# Altium footprint library QFN_Sq_65P_Side_L.PcbLib: 53 footprints (part 1 of 4)
Each footprint in its own frame and in the unit in brackets; x right, y up, seen from the top. Pads: shape width x height; smd on the part's side, far side on the other; paste and mask are expansions set on the pad; w line width, h text height; cw(c..) or ccw(c..) is an arc to the next point about the centre after c.
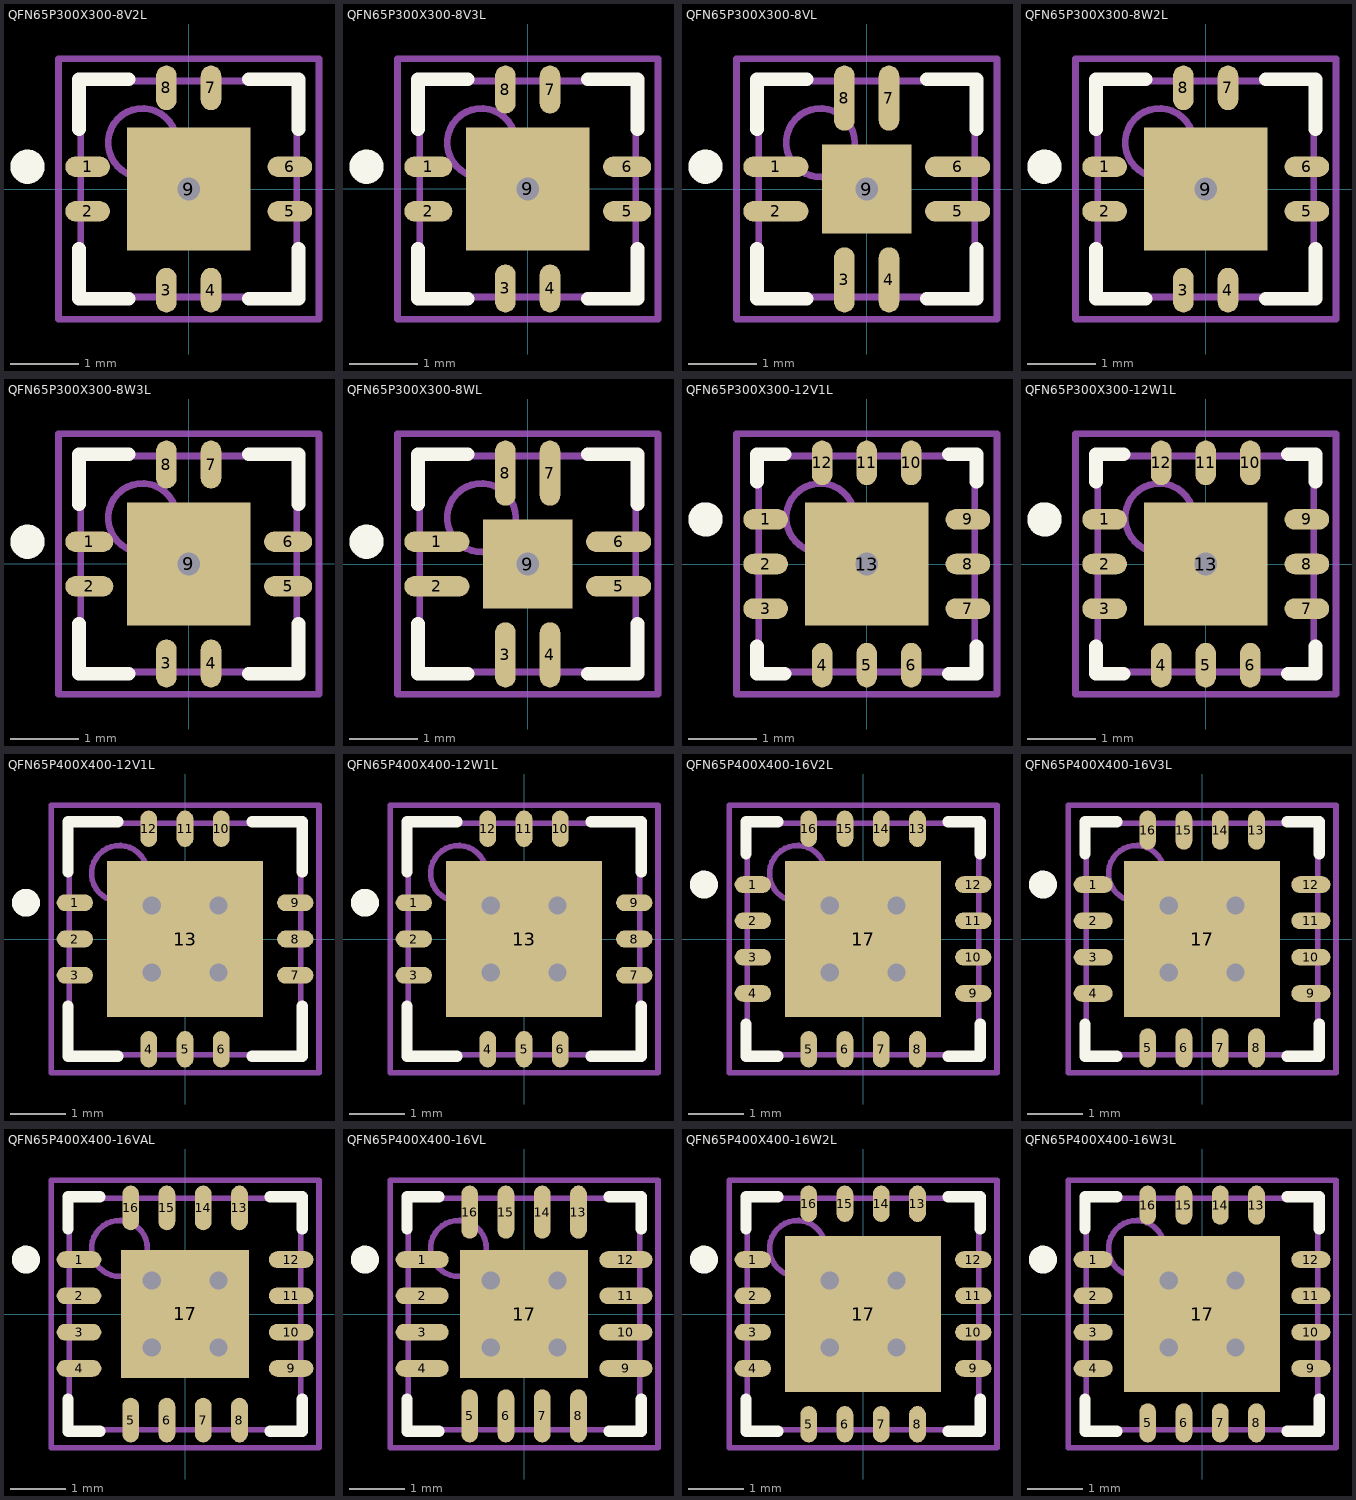
[diagram p0: the footprints below, top view; thin cyan lines are the x and y axes]

## QFN65P300X300-8V2L [mm] "QFN, 8-Leads, Body 3x3 mm, Pitch 0.65mm, IPC High Density"
height 1
pads (9):
  oval 0.65x0.3 smd: 1(-1.475,0.325) 2(-1.475,-0.325) 5(1.475,-0.325) 6(1.475,0.325)
  oval 0.3x0.65 smd: 3(-0.325,-1.475) 4(0.325,-1.475) 7(0.325,1.475) 8(-0.325,1.475)
  rect 1.8x1.8 smd: 9(0,0)
via 0,0 diameter 0.66 hole 0.33
Top Overlay:
  circle w0.25: c-2.35,0.325 r0.125
  lines w0.2: -1.6,-0.875 -1.6,-1.6 -0.875,-1.6 ; -1.6,0.875 -1.6,1.6 -0.875,1.6 ; 0.875,-1.6 1.6,-1.6 1.6,-0.875 ; 0.875,1.6 1.6,1.6 1.6,0.875
Mechanical 13:
  circle w0.1: c-0.675,0.675 r0.5
  lines w0.1: -1.575,-1.575 -1.575,1.575 1.575,1.575 1.575,-1.575 -1.575,-1.575
Mechanical 15:
  lines w0.1: -0.5,0 0.5,0 ; 0,-0.5 0,0.5 ; -1.9,-1.9 -1.9,1.9 1.9,1.9 1.9,-1.9 -1.9,-1.9
3D body: height 1, standoff 0, extent -1.575,-1.575 1.575,1.575

## QFN65P300X300-8V3L [mm] "QFN, 8-Leads, Body 3x3 mm, Pitch 0.65mm, IPC High Density"
height 1
pads (9):
  oval 0.7x0.3 smd: 1(-1.45,0.325) 2(-1.45,-0.325) 5(1.45,-0.325) 6(1.45,0.325)
  oval 0.3x0.7 smd: 3(-0.325,-1.45) 4(0.325,-1.45) 7(0.325,1.45) 8(-0.325,1.45)
  rect 1.8x1.8 smd: 9(0,0)
via 0,0 diameter 0.66 hole 0.33
Top Overlay:
  circle w0.25: c-2.35,0.325 r0.125
  lines w0.2: -1.6,-0.875 -1.6,-1.6 -0.875,-1.6 ; -1.6,0.875 -1.6,1.6 -0.875,1.6 ; 0.875,-1.6 1.6,-1.6 1.6,-0.875 ; 0.875,1.6 1.6,1.6 1.6,0.875
Mechanical 13:
  circle w0.1: c-0.675,0.675 r0.5
  lines w0.1: -1.575,-1.575 1.575,-1.575 1.575,1.575 -1.575,1.575 -1.575,-1.575
Mechanical 15:
  lines w0.1: -0.5,0 0.5,0 ; 0,-0.5 0,0.5 ; -1.9,-1.9 1.9,-1.9 1.9,1.9 -1.9,1.9 -1.9,-1.9
3D body: height 1, standoff 0, extent -1.575,-1.575 1.575,1.575

## QFN65P300X300-8VL [mm] "QFN, 8-Leads, Body 3x3 mm, Pitch 0.65mm, IPC High Density"
height 1
pads (9):
  oval 0.95x0.3 smd: 1(-1.325,0.325) 2(-1.325,-0.325) 5(1.325,-0.325) 6(1.325,0.325)
  oval 0.3x0.95 smd: 3(-0.325,-1.325) 4(0.325,-1.325) 7(0.325,1.325) 8(-0.325,1.325)
  rect 1.3x1.3 smd: 9(0,0)
via 0,0 diameter 0.66 hole 0.33
Top Overlay:
  circle w0.25: c-2.35,0.325 r0.125
  lines w0.2: -1.6,-0.875 -1.6,-1.6 -0.875,-1.6 ; -1.6,0.875 -1.6,1.6 -0.875,1.6 ; 0.875,-1.6 1.6,-1.6 1.6,-0.875 ; 0.875,1.6 1.6,1.6 1.6,0.875
Mechanical 13:
  circle w0.1: c-0.675,0.675 r0.5
  lines w0.1: -1.575,-1.575 1.575,-1.575 1.575,1.575 -1.575,1.575 -1.575,-1.575
Mechanical 15:
  lines w0.1: -0.5,0 0.5,0 ; 0,-0.5 0,0.5 ; -1.9,-1.9 1.9,-1.9 1.9,1.9 -1.9,1.9 -1.9,-1.9
3D body: height 1, standoff 0, extent -1.575,-1.575 1.575,1.575

## QFN65P300X300-8W2L [mm] "QFN, 8-Leads, Body 3x3 mm, Pitch 0.65mm, IPC High Density"
height 0.8
pads (9):
  oval 0.65x0.3 smd: 1(-1.475,0.325) 2(-1.475,-0.325) 5(1.475,-0.325) 6(1.475,0.325)
  oval 0.3x0.65 smd: 3(-0.325,-1.475) 4(0.325,-1.475) 7(0.325,1.475) 8(-0.325,1.475)
  rect 1.8x1.8 smd: 9(0,0)
via 0,0 diameter 0.66 hole 0.33
Top Overlay:
  circle w0.25: c-2.35,0.325 r0.125
  lines w0.2: -1.6,-0.875 -1.6,-1.6 -0.875,-1.6 ; -1.6,0.875 -1.6,1.6 -0.875,1.6 ; 0.875,-1.6 1.6,-1.6 1.6,-0.875 ; 0.875,1.6 1.6,1.6 1.6,0.875
Mechanical 13:
  circle w0.1: c-0.675,0.675 r0.5
  lines w0.1: -1.575,-1.575 -1.575,1.575 1.575,1.575 1.575,-1.575 -1.575,-1.575
Mechanical 15:
  lines w0.1: -0.5,0 0.5,0 ; 0,-0.5 0,0.5 ; -1.9,-1.9 -1.9,1.9 1.9,1.9 1.9,-1.9 -1.9,-1.9
3D body: height 0.8, standoff 0, extent -1.575,-1.575 1.575,1.575

## QFN65P300X300-8W3L [mm] "QFN, 8-Leads, Body 3x3 mm, Pitch 0.65mm, IPC High Density"
height 0.8
pads (9):
  oval 0.7x0.3 smd: 1(-1.45,0.325) 2(-1.45,-0.325) 5(1.45,-0.325) 6(1.45,0.325)
  oval 0.3x0.7 smd: 3(-0.325,-1.45) 4(0.325,-1.45) 7(0.325,1.45) 8(-0.325,1.45)
  rect 1.8x1.8 smd: 9(0,0)
via 0,0 diameter 0.66 hole 0.33
Top Overlay:
  circle w0.25: c-2.35,0.325 r0.125
  lines w0.2: -1.6,-0.875 -1.6,-1.6 -0.875,-1.6 ; -1.6,0.875 -1.6,1.6 -0.875,1.6 ; 0.875,-1.6 1.6,-1.6 1.6,-0.875 ; 0.875,1.6 1.6,1.6 1.6,0.875
Mechanical 13:
  circle w0.1: c-0.675,0.675 r0.5
  lines w0.1: -1.575,-1.575 1.575,-1.575 1.575,1.575 -1.575,1.575 -1.575,-1.575
Mechanical 15:
  lines w0.1: -0.5,0 0.5,0 ; 0,-0.5 0,0.5 ; -1.9,-1.9 1.9,-1.9 1.9,1.9 -1.9,1.9 -1.9,-1.9
3D body: height 0.8, standoff 0, extent -1.575,-1.575 1.575,1.575

## QFN65P300X300-8WL [mm] "QFN, 8-Leads, Body 3x3 mm, Pitch 0.65mm, IPC High Density"
height 0.8
pads (9):
  oval 0.95x0.3 smd: 1(-1.325,0.325) 2(-1.325,-0.325) 5(1.325,-0.325) 6(1.325,0.325)
  oval 0.3x0.95 smd: 3(-0.325,-1.325) 4(0.325,-1.325) 7(0.325,1.325) 8(-0.325,1.325)
  rect 1.3x1.3 smd: 9(0,0)
via 0,0 diameter 0.66 hole 0.33
Top Overlay:
  circle w0.25: c-2.35,0.325 r0.125
  lines w0.2: -1.6,-0.875 -1.6,-1.6 -0.875,-1.6 ; -1.6,0.875 -1.6,1.6 -0.875,1.6 ; 0.875,-1.6 1.6,-1.6 1.6,-0.875 ; 0.875,1.6 1.6,1.6 1.6,0.875
Mechanical 13:
  circle w0.1: c-0.675,0.675 r0.5
  lines w0.1: -1.575,-1.575 1.575,-1.575 1.575,1.575 -1.575,1.575 -1.575,-1.575
Mechanical 15:
  lines w0.1: -0.5,0 0.5,0 ; 0,-0.5 0,0.5 ; -1.9,-1.9 1.9,-1.9 1.9,1.9 -1.9,1.9 -1.9,-1.9
3D body: height 0.8, standoff 0, extent -1.575,-1.575 1.575,1.575

## QFN65P300X300-12V1L [mm] "QFN, 12-Leads, Body 3x3 mm, Pitch 0.65mm, IPC High Density"
height 1
pads (13):
  oval 0.65x0.3 smd: 1(-1.475,0.65) 2(-1.475,0) 3(-1.475,-0.65) 7(1.475,-0.65) 8(1.475,0) 9(1.475,0.65)
  oval 0.3x0.65 smd: 4(-0.65,-1.475) 5(0,-1.475) 6(0.65,-1.475) 10(0.65,1.475) 11(0,1.475) 12(-0.65,1.475)
  rect 1.8x1.8 smd: 13(0,0)
via 0,0 diameter 0.66 hole 0.33
Top Overlay:
  circle w0.25: c-2.35,0.65 r0.125
  lines w0.2: -1.6,-1.2 -1.6,-1.6 -1.2,-1.6 ; -1.6,1.2 -1.6,1.6 -1.2,1.6 ; 1.2,-1.6 1.6,-1.6 1.6,-1.2 ; 1.2,1.6 1.6,1.6 1.6,1.2
Mechanical 13:
  circle w0.1: c-0.675,0.675 r0.5
  lines w0.1: -1.575,-1.575 1.575,-1.575 1.575,1.575 -1.575,1.575 -1.575,-1.575
Mechanical 15:
  lines w0.1: -0.5,0 0.5,0 ; 0,-0.5 0,0.5 ; -1.9,-1.9 1.9,-1.9 1.9,1.9 -1.9,1.9 -1.9,-1.9
3D body: height 1, standoff 0, extent -1.575,-1.575 1.575,1.575

## QFN65P300X300-12W1L [mm] "QFN, 12-Leads, Body 3x3 mm, Pitch 0.65mm, IPC High Density"
height 0.8
pads (13):
  oval 0.65x0.3 smd: 1(-1.475,0.65) 2(-1.475,0) 3(-1.475,-0.65) 7(1.475,-0.65) 8(1.475,0) 9(1.475,0.65)
  oval 0.3x0.65 smd: 4(-0.65,-1.475) 5(0,-1.475) 6(0.65,-1.475) 10(0.65,1.475) 11(0,1.475) 12(-0.65,1.475)
  rect 1.8x1.8 smd: 13(0,0)
via 0,0 diameter 0.66 hole 0.33
Top Overlay:
  circle w0.25: c-2.35,0.65 r0.125
  lines w0.2: -1.6,-1.2 -1.6,-1.6 -1.2,-1.6 ; -1.6,1.2 -1.6,1.6 -1.2,1.6 ; 1.2,-1.6 1.6,-1.6 1.6,-1.2 ; 1.2,1.6 1.6,1.6 1.6,1.2
Mechanical 13:
  circle w0.1: c-0.675,0.675 r0.5
  lines w0.1: -1.575,-1.575 1.575,-1.575 1.575,1.575 -1.575,1.575 -1.575,-1.575
Mechanical 15:
  lines w0.1: -0.5,0 0.5,0 ; 0,-0.5 0,0.5 ; -1.9,-1.9 1.9,-1.9 1.9,1.9 -1.9,1.9 -1.9,-1.9
3D body: height 0.8, standoff 0, extent -1.575,-1.575 1.575,1.575

## QFN65P400X400-12V1L [mm] "QFN, 12-Leads, Body 4x4 mm, Pitch 0.65mm, IPC High Density"
height 1
pads (13):
  oval 0.65x0.3 smd: 1(-1.975,0.65) 2(-1.975,0) 3(-1.975,-0.65) 7(1.975,-0.65) 8(1.975,0) 9(1.975,0.65)
  oval 0.3x0.65 smd: 4(-0.65,-1.975) 5(0,-1.975) 6(0.65,-1.975) 10(0.65,1.975) 11(0,1.975) 12(-0.65,1.975)
  rect 2.8x2.8 smd: 13(0,0)
via 0.6,-0.6 diameter 0.66 hole 0.33
via -0.6,-0.6 diameter 0.66 hole 0.33
via 0.6,0.6 diameter 0.66 hole 0.33
via -0.6,0.6 diameter 0.66 hole 0.33
Top Overlay:
  circle w0.25: c-2.85,0.65 r0.125
  lines w0.2: -2.1,-1.2 -2.1,-2.1 -1.2,-2.1 ; -2.1,1.2 -2.1,2.1 -1.2,2.1 ; 1.2,-2.1 2.1,-2.1 2.1,-1.2 ; 1.2,2.1 2.1,2.1 2.1,1.2
Mechanical 13:
  circle w0.1: c-1.175,1.175 r0.5
  lines w0.1: -2.075,-2.075 2.075,-2.075 2.075,2.075 -2.075,2.075 -2.075,-2.075
Mechanical 15:
  lines w0.1: -0.5,0 0.5,0 ; 0,-0.5 0,0.5 ; -2.4,-2.4 2.4,-2.4 2.4,2.4 -2.4,2.4 -2.4,-2.4
3D body: height 1, standoff 0, extent -2.075,-2.075 2.075,2.075

## QFN65P400X400-12W1L [mm] "QFN, 12-Leads, Body 4x4 mm, Pitch 0.65mm, IPC High Density"
height 0.8
pads (13):
  oval 0.65x0.3 smd: 1(-1.975,0.65) 2(-1.975,0) 3(-1.975,-0.65) 7(1.975,-0.65) 8(1.975,0) 9(1.975,0.65)
  oval 0.3x0.65 smd: 4(-0.65,-1.975) 5(0,-1.975) 6(0.65,-1.975) 10(0.65,1.975) 11(0,1.975) 12(-0.65,1.975)
  rect 2.8x2.8 smd: 13(0,0)
via 0.6,-0.6 diameter 0.66 hole 0.33
via -0.6,-0.6 diameter 0.66 hole 0.33
via 0.6,0.6 diameter 0.66 hole 0.33
via -0.6,0.6 diameter 0.66 hole 0.33
Top Overlay:
  circle w0.25: c-2.85,0.65 r0.125
  lines w0.2: -2.1,-1.2 -2.1,-2.1 -1.2,-2.1 ; -2.1,1.2 -2.1,2.1 -1.2,2.1 ; 1.2,-2.1 2.1,-2.1 2.1,-1.2 ; 1.2,2.1 2.1,2.1 2.1,1.2
Mechanical 13:
  circle w0.1: c-1.175,1.175 r0.5
  lines w0.1: -2.075,-2.075 2.075,-2.075 2.075,2.075 -2.075,2.075 -2.075,-2.075
Mechanical 15:
  lines w0.1: -0.5,0 0.5,0 ; 0,-0.5 0,0.5 ; -2.4,-2.4 2.4,-2.4 2.4,2.4 -2.4,2.4 -2.4,-2.4
3D body: height 0.8, standoff 0, extent -2.075,-2.075 2.075,2.075

## QFN65P400X400-16V2L [mm] "QFN, 16-Leads, Body 4x4 mm, Pitch 0.65mm, IPC High Density"
height 1
pads (17):
  oval 0.65x0.3 smd: 1(-1.975,0.975) 2(-1.975,0.325) 3(-1.975,-0.325) 4(-1.975,-0.975) 9(1.975,-0.975) 10(1.975,-0.325) 11(1.975,0.325) 12(1.975,0.975)
  oval 0.3x0.65 smd: 5(-0.975,-1.975) 6(-0.325,-1.975) 7(0.325,-1.975) 8(0.975,-1.975) 13(0.975,1.975) 14(0.325,1.975) 15(-0.325,1.975) 16(-0.975,1.975)
  rect 2.8x2.8 smd: 17(0,0)
via 0.6,-0.6 diameter 0.66 hole 0.33
via -0.6,-0.6 diameter 0.66 hole 0.33
via 0.6,0.6 diameter 0.66 hole 0.33
via -0.6,0.6 diameter 0.66 hole 0.33
Top Overlay:
  circle w0.25: c-2.85,0.975 r0.125
  lines w0.2: -2.1,-1.525 -2.1,-2.1 -1.525,-2.1 ; -2.1,1.525 -2.1,2.1 -1.525,2.1 ; 1.525,-2.1 2.1,-2.1 2.1,-1.525 ; 1.525,2.1 2.1,2.1 2.1,1.525
Mechanical 13:
  circle w0.1: c-1.175,1.175 r0.5
  lines w0.1: -2.075,-2.075 2.075,-2.075 2.075,2.075 -2.075,2.075 -2.075,-2.075
Mechanical 15:
  lines w0.1: -0.5,0 0.5,0 ; 0,-0.5 0,0.5 ; -2.4,-2.4 2.4,-2.4 2.4,2.4 -2.4,2.4 -2.4,-2.4
3D body: height 1, standoff 0, extent -2.075,-2.075 2.075,2.075

## QFN65P400X400-16V3L [mm] "QFN, 16-Leads, Body 4x4 mm, Pitch 0.65mm, IPC High Density"
height 1
pads (17):
  oval 0.7x0.3 smd: 1(-1.95,0.975) 2(-1.95,0.325) 3(-1.95,-0.325) 4(-1.95,-0.975) 9(1.95,-0.975) 10(1.95,-0.325) 11(1.95,0.325) 12(1.95,0.975)
  oval 0.3x0.7 smd: 5(-0.975,-1.95) 6(-0.325,-1.95) 7(0.325,-1.95) 8(0.975,-1.95) 13(0.975,1.95) 14(0.325,1.95) 15(-0.325,1.95) 16(-0.975,1.95)
  rect 2.8x2.8 smd: 17(0,0)
via 0.6,-0.6 diameter 0.66 hole 0.33
via -0.6,-0.6 diameter 0.66 hole 0.33
via 0.6,0.6 diameter 0.66 hole 0.33
via -0.6,0.6 diameter 0.66 hole 0.33
Top Overlay:
  circle w0.25: c-2.85,0.975 r0.125
  lines w0.2: -2.1,-1.525 -2.1,-2.1 -1.525,-2.1 ; -2.1,1.525 -2.1,2.1 -1.525,2.1 ; 1.525,-2.1 2.1,-2.1 2.1,-1.525 ; 1.525,2.1 2.1,2.1 2.1,1.525
Mechanical 13:
  circle w0.1: c-1.175,1.175 r0.5
  lines w0.1: -2.075,-2.075 2.075,-2.075 2.075,2.075 -2.075,2.075 -2.075,-2.075
Mechanical 15:
  lines w0.1: -0.5,0 0.5,0 ; 0,-0.5 0,0.5 ; -2.4,-2.4 2.4,-2.4 2.4,2.4 -2.4,2.4 -2.4,-2.4
3D body: height 1, standoff 0, extent -2.075,-2.075 2.075,2.075

## QFN65P400X400-16VAL [mm] "16-Pin Plastic Quad Flat No-Lead 0.65 mm Pitch"
height 1
pads (17):
  oval 0.8x0.3 smd: 1(-1.9,0.975) 2(-1.9,0.325) 3(-1.9,-0.325) 4(-1.9,-0.975) 9(1.9,-0.975) 10(1.9,-0.325) 11(1.9,0.325) 12(1.9,0.975)
  oval 0.3x0.8 smd: 5(-0.975,-1.9) 6(-0.325,-1.9) 7(0.325,-1.9) 8(0.975,-1.9) 13(0.975,1.9) 14(0.325,1.9) 15(-0.325,1.9) 16(-0.975,1.9)
  rect 2.3x2.3 smd: 17(0,0)
via -0.6,0.6 diameter 0.66 hole 0.33
via 0.6,0.6 diameter 0.66 hole 0.33
via -0.6,-0.6 diameter 0.66 hole 0.33
via 0.6,-0.6 diameter 0.66 hole 0.33
Top Overlay:
  circle w0.25: c-2.85,0.975 r0.125
  lines w0.2: -2.1,-1.525 -2.1,-2.1 -1.525,-2.1 ; -2.1,1.525 -2.1,2.1 -1.525,2.1 ; 1.525,-2.1 2.1,-2.1 2.1,-1.525 ; 1.525,2.1 2.1,2.1 2.1,1.525
Mechanical 13:
  circle w0.1: c-1.175,1.175 r0.5
  lines w0.1: -2.075,-2.075 -2.075,2.075 2.075,2.075 2.075,-2.075 -2.075,-2.075
Mechanical 15:
  lines w0.1: -0.5,0 0.5,0 ; 0,-0.5 0,0.5 ; -2.4,-2.4 -2.4,2.4 2.4,2.4 2.4,-2.4 -2.4,-2.4
3D body: height 1, standoff 0, extent -2.075,-2.075 2.075,2.075

## QFN65P400X400-16VL [mm] "QFN, 16-Leads, Body 4x4 mm, Pitch 0.65mm, IPC High Density"
height 1
pads (17):
  oval 0.95x0.3 smd: 1(-1.825,0.975) 2(-1.825,0.325) 3(-1.825,-0.325) 4(-1.825,-0.975) 9(1.825,-0.975) 10(1.825,-0.325) 11(1.825,0.325) 12(1.825,0.975)
  oval 0.3x0.95 smd: 5(-0.975,-1.825) 6(-0.325,-1.825) 7(0.325,-1.825) 8(0.975,-1.825) 13(0.975,1.825) 14(0.325,1.825) 15(-0.325,1.825) 16(-0.975,1.825)
  rect 2.3x2.3 smd: 17(0,0)
via 0.6,-0.6 diameter 0.66 hole 0.33
via -0.6,-0.6 diameter 0.66 hole 0.33
via 0.6,0.6 diameter 0.66 hole 0.33
via -0.6,0.6 diameter 0.66 hole 0.33
Top Overlay:
  circle w0.25: c-2.85,0.975 r0.125
  lines w0.2: -2.1,-1.525 -2.1,-2.1 -1.525,-2.1 ; -2.1,1.525 -2.1,2.1 -1.525,2.1 ; 1.525,-2.1 2.1,-2.1 2.1,-1.525 ; 1.525,2.1 2.1,2.1 2.1,1.525
Mechanical 13:
  circle w0.1: c-1.175,1.175 r0.5
  lines w0.1: -2.075,-2.075 2.075,-2.075 2.075,2.075 -2.075,2.075 -2.075,-2.075
Mechanical 15:
  lines w0.1: -0.5,0 0.5,0 ; 0,-0.5 0,0.5 ; -2.4,-2.4 2.4,-2.4 2.4,2.4 -2.4,2.4 -2.4,-2.4
3D body: height 1, standoff 0, extent -2.075,-2.075 2.075,2.075

## QFN65P400X400-16W2L [mm] "QFN, 16-Leads, Body 4x4 mm, Pitch 0.65mm, IPC High Density"
height 0.8
pads (17):
  oval 0.65x0.3 smd: 1(-1.975,0.975) 2(-1.975,0.325) 3(-1.975,-0.325) 4(-1.975,-0.975) 9(1.975,-0.975) 10(1.975,-0.325) 11(1.975,0.325) 12(1.975,0.975)
  oval 0.3x0.65 smd: 5(-0.975,-1.975) 6(-0.325,-1.975) 7(0.325,-1.975) 8(0.975,-1.975) 13(0.975,1.975) 14(0.325,1.975) 15(-0.325,1.975) 16(-0.975,1.975)
  rect 2.8x2.8 smd: 17(0,0)
via 0.6,-0.6 diameter 0.66 hole 0.33
via -0.6,-0.6 diameter 0.66 hole 0.33
via 0.6,0.6 diameter 0.66 hole 0.33
via -0.6,0.6 diameter 0.66 hole 0.33
Top Overlay:
  circle w0.25: c-2.85,0.975 r0.125
  lines w0.2: -2.1,-1.525 -2.1,-2.1 -1.525,-2.1 ; -2.1,1.525 -2.1,2.1 -1.525,2.1 ; 1.525,-2.1 2.1,-2.1 2.1,-1.525 ; 1.525,2.1 2.1,2.1 2.1,1.525
Mechanical 13:
  circle w0.1: c-1.175,1.175 r0.5
  lines w0.1: -2.075,-2.075 2.075,-2.075 2.075,2.075 -2.075,2.075 -2.075,-2.075
Mechanical 15:
  lines w0.1: -0.5,0 0.5,0 ; 0,-0.5 0,0.5 ; -2.4,-2.4 2.4,-2.4 2.4,2.4 -2.4,2.4 -2.4,-2.4
3D body: height 0.8, standoff 0, extent -2.075,-2.075 2.075,2.075

## QFN65P400X400-16W3L [mm] "QFN, 16-Leads, Body 4x4 mm, Pitch 0.65mm, IPC High Density"
height 0.8
pads (17):
  oval 0.7x0.3 smd: 1(-1.95,0.975) 2(-1.95,0.325) 3(-1.95,-0.325) 4(-1.95,-0.975) 9(1.95,-0.975) 10(1.95,-0.325) 11(1.95,0.325) 12(1.95,0.975)
  oval 0.3x0.7 smd: 5(-0.975,-1.95) 6(-0.325,-1.95) 7(0.325,-1.95) 8(0.975,-1.95) 13(0.975,1.95) 14(0.325,1.95) 15(-0.325,1.95) 16(-0.975,1.95)
  rect 2.8x2.8 smd: 17(0,0)
via 0.6,-0.6 diameter 0.66 hole 0.33
via -0.6,-0.6 diameter 0.66 hole 0.33
via 0.6,0.6 diameter 0.66 hole 0.33
via -0.6,0.6 diameter 0.66 hole 0.33
Top Overlay:
  circle w0.25: c-2.85,0.975 r0.125
  lines w0.2: -2.1,-1.525 -2.1,-2.1 -1.525,-2.1 ; -2.1,1.525 -2.1,2.1 -1.525,2.1 ; 1.525,-2.1 2.1,-2.1 2.1,-1.525 ; 1.525,2.1 2.1,2.1 2.1,1.525
Mechanical 13:
  circle w0.1: c-1.175,1.175 r0.5
  lines w0.1: -2.075,-2.075 2.075,-2.075 2.075,2.075 -2.075,2.075 -2.075,-2.075
Mechanical 15:
  lines w0.1: -0.5,0 0.5,0 ; 0,-0.5 0,0.5 ; -2.4,-2.4 2.4,-2.4 2.4,2.4 -2.4,2.4 -2.4,-2.4
3D body: height 0.8, standoff 0, extent -2.075,-2.075 2.075,2.075